# Altium schematic symbol library PLD2-6.Schlib: 1 symbol
Pins are listed as number, name and electrical type; pins without a type are passive.

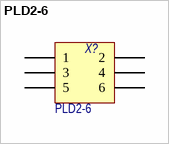
[diagram p0: symbol PLD2-6]

## PLD2-6
designator X?, comment Наименование: PLD2-6  (hidden comment: Header 2X6)
Header, 6-Pin, Dual row; Потребление, Вт: 0,0; Назначение: Header, 6-Pin, Dual row
footprint PLD2-6
pins: 1, 2, 3, 4, 5, 6